# Altium footprint library DIO_S1G.PcbLib: 1 footprints
Each footprint in its own frame and in the unit in brackets; x right, y up, seen from the top. Pads: shape width x height; smd on the part's side, far side on the other; paste and mask are expansions set on the pad; w line width, h text height; cw(c..) or ccw(c..) is an arc to the next point about the centre after c.
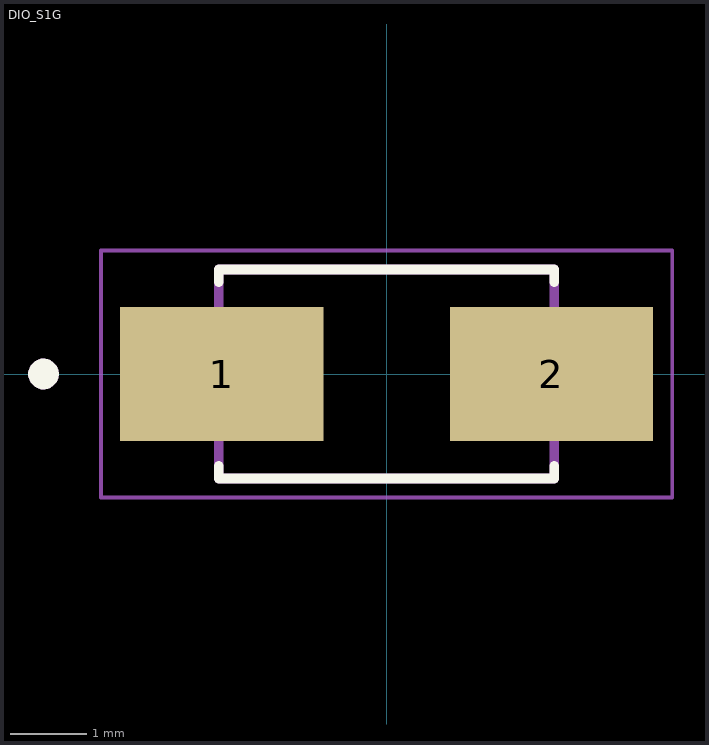
[diagram p0: the footprint, top view; thin cyan lines are the x and y axes]

## DIO_S1G [mm]
height 2.5
pads (2):
  rect 2.65x1.75 smd: 1(-2.15,0) 2(2.15,0)
Top Overlay:
  circle w0.2: c-4.475,0 r0.1
  lines w0.127: -2.187,-1.195 -2.187,-1.362 2.187,-1.362 2.187,-1.195 ; -2.187,1.195 -2.187,1.362 2.187,1.362 2.187,1.195
Mechanical 13:
  circle w0.2: c-4.475,0 r0.1
  lines w0.127: -2.187,-1.362 -2.187,1.362 2.187,1.362 2.187,-1.362 -2.187,-1.362
Mechanical 15:
  lines w0.05: -3.725,-1.613 -3.725,1.613 3.725,1.613 3.725,-1.613 -3.725,-1.613
3D body "step_temp.STEP": height 2.7, standoff 0, extent -2.6,-1.362 2.6,1.362